# EAGLE library part IC_555 (library dp_devices)
Classic 555 IC
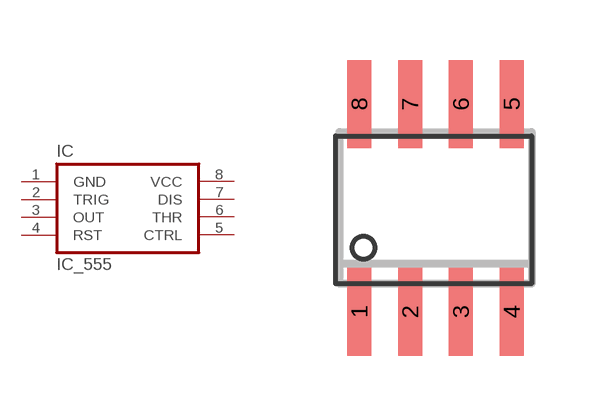
[diagram p104: symbol with the pads of SOIC-8; footprint SOIC-8]

Designator prefix IC

## IC_555-SOIC8  [SOIC-8]
1  GND  sup
2  TRIG  in
3  OUT  out
4  RST  in
5  CTRL  sup
6  THR  in
7  DIS  in
8  VCC  sup

## Footprint SOIC-8 (pad centres in mm)
smd 0.6 x 2.2: 1 -1.905,-2.6; 2 -0.635,-2.6; 3 0.635,-2.6; 4 1.905,-2.6; 5 1.905,2.6; 6 0.635,2.6; 7 -0.635,2.6; 8 -1.905,2.6